# EAGLE library part IV-6 (library joep-custom)
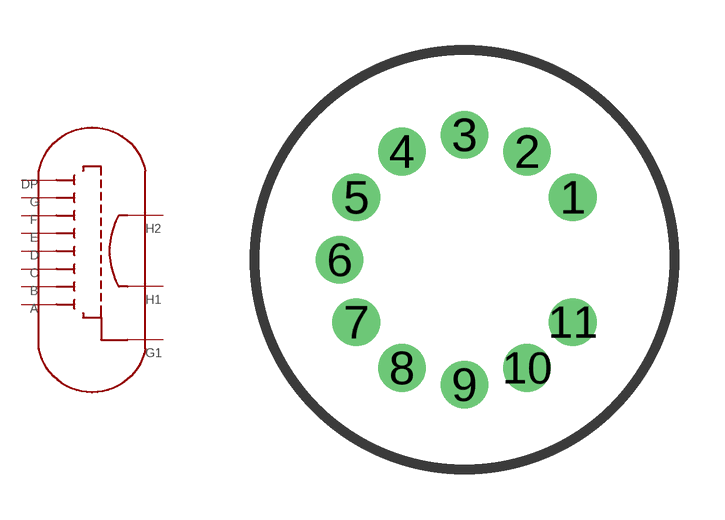
[diagram p7: symbol with the pads of NIXIE-12; footprint NIXIE-12]

Designator prefix -

## IV-6  [NIXIE-12]
1  B
2  A
3  G
4  F
5  E
6  D
7  H1
8  H2
9  G1
10  C
11  DP

## Footprint NIXIE-12 (pad centres in mm)
Eagle SCR autogenerated 12 pin Nixie socket
drill 0.84 pad 1.422 round: 1 3.228,1.863; 2 1.863,3.228; 3 0,3.727; 4 -1.863,3.228; 5 -3.228,1.863; 6 -3.727,0; 7 -3.228,-1.863; 8 -1.863,-3.228; 9 0,-3.727; 10 1.863,-3.228; 11 3.228,-1.863